# Altium integrated library TI Power Management Battery Management.IntLib: 949 symbols (part 43 of 62)
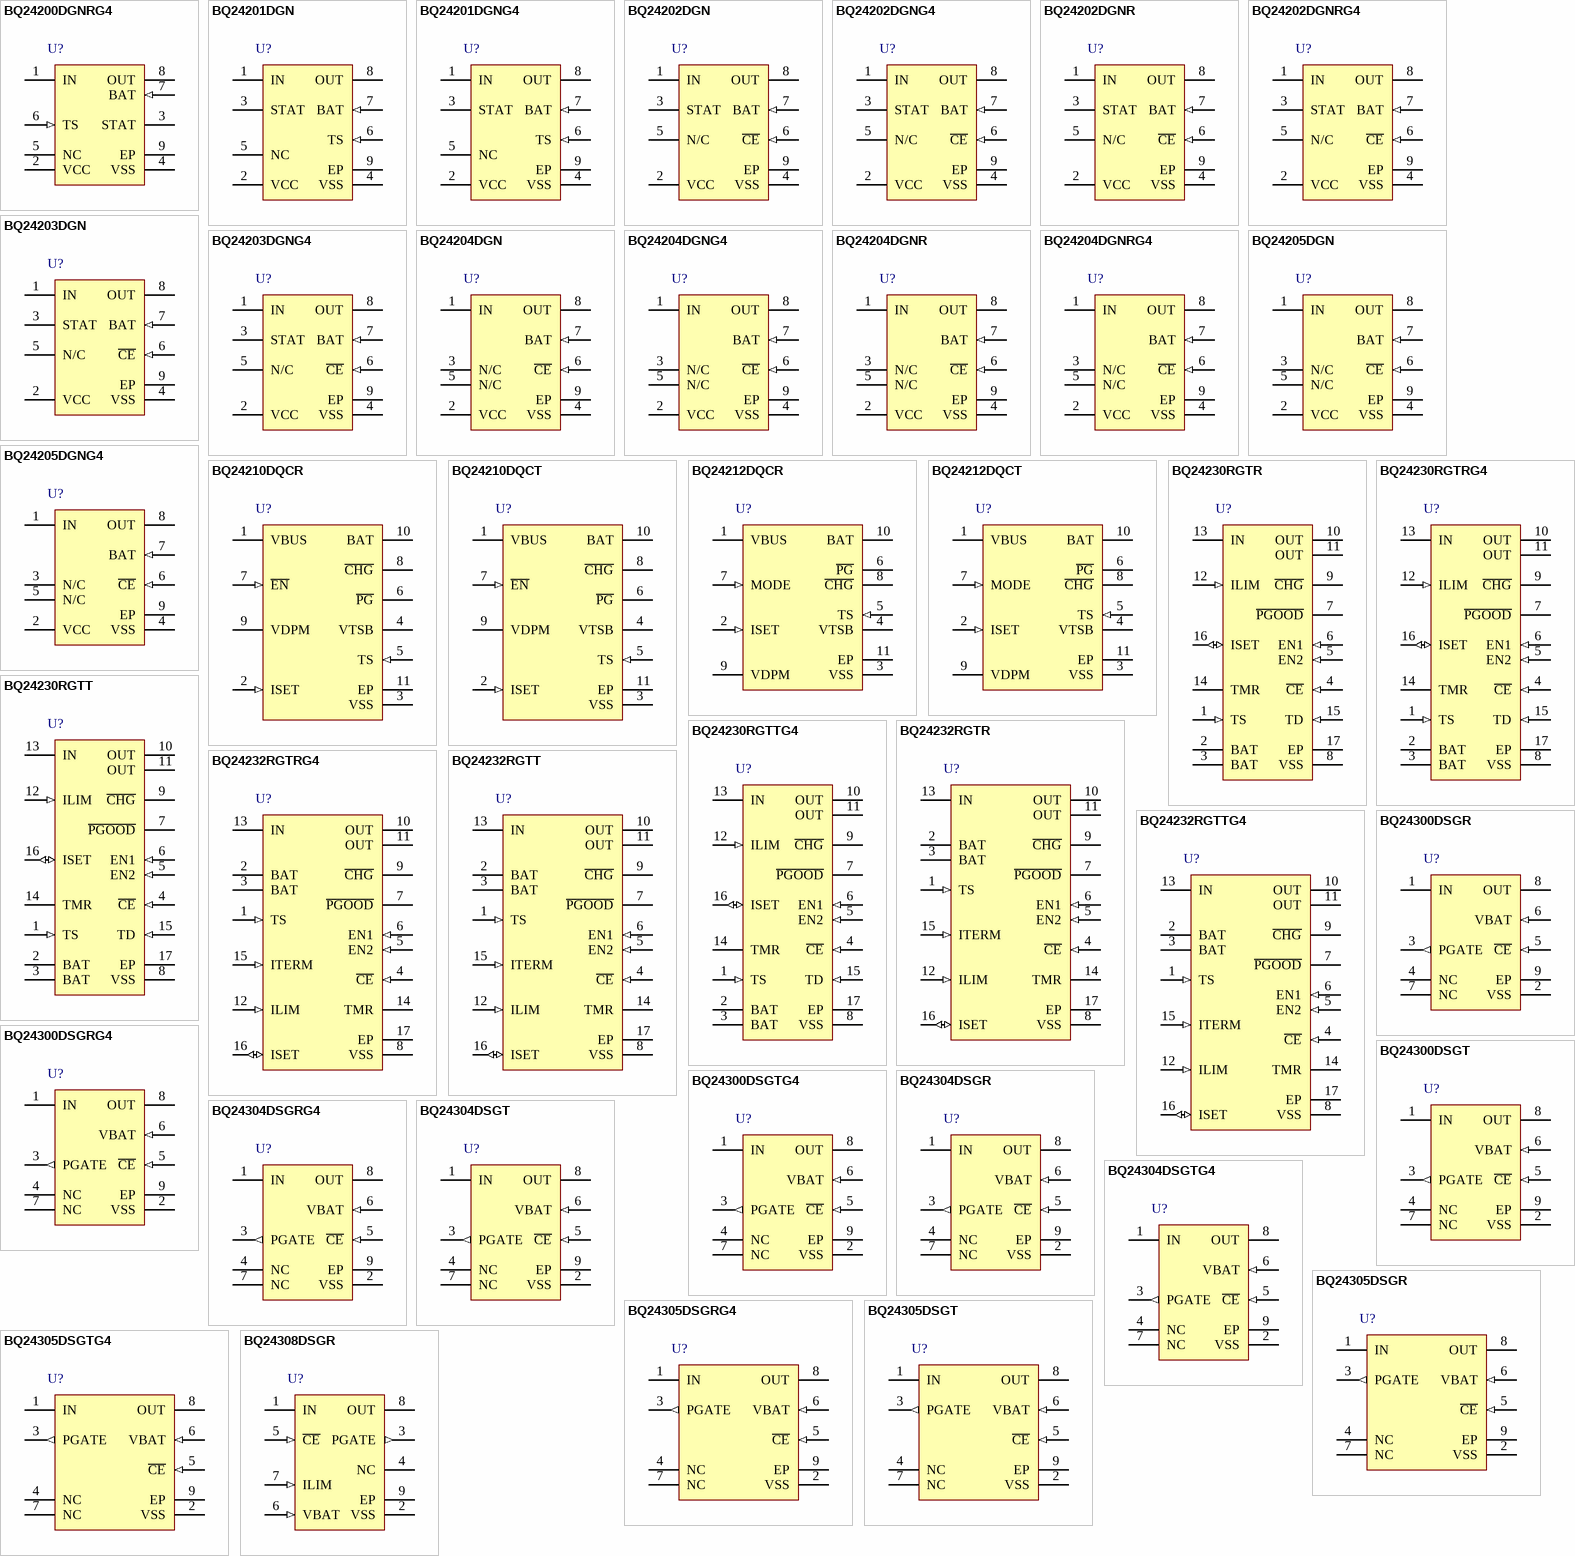
[diagram p76: symbols BQ24200DGNRG4 to BQ24308DSGR]

## BQ24300DSGRG4
designator U?
Charger Front End Protection IC with 30 V Max Vin and 5.5 V LDO Output, 0 to 125 degC, 8-pin WSON (DSG), Green (RoHS & no Sb/Br); PartNumber: BQ24300DSGRG4; Manufacturer: Texas Instruments; Lead Acid: N; DatasheetVersion: SLUS764C; PackageVersion: revB, Oct-2010; PackageReference: DSG8-1600X900TP; PackageDescription: 8-Pin Plastic Small Outline No-Lead, 2 x 2 x 0.8 mm Body, 0.5 mm Pitch, Exposed Pad; Supplier 1: Digi-Key; Supplier Part Number 1: BQ24300DSGRG4-ND; Supplier 2: Mouser; Supplier Part Number 2: 595-BQ24300DSGRG4; Eco-Plan: Green (RoHS & no Sb/Br); Li-Ion: N; Li-Polymer: N; NiCd: N; NiMH: N; Over Voltage Protection: N; SubFamily: Charger Front End Protection; Mounting Technology: Surface Mount; Code_JEDEC: MO-229; ComponentLink1Description: Datasheet; ComponentLink1URL: http://www.ti.com/general/docs/lit/getliterature.tsp?genericPartNumber=BQ24300&fileType=pdf
footprint DSG8-1600X900TP (SON, 8-Leads, Body 2x2mm, Pitch 0.5mm, Thermal Pad 1.6x0.9mm, TI Recommended)
pins: 1 IN (power) "Input power, connect to external DC supply. Connect external 0.1uF (minimum) ceramic capacitor to VSS", 2 VSS (power) "Ground terminal", 3 PGATE (out) "Gate drive for optional external P-FET", 4 NC "Do not connect to any external circuit. These pins may have internal connections used for test purposes.", 5 ~{CE} (in) "Chip enable input. Active low. When C\E\ = Hi, the input FET is off. Internally pulled down.", 6 VBAT (in) "Battery voltage sense input. Connect to pack positive terminal through a resistor.", 7 NC "Do not connect to any external circuit. These pins may have internal connections used for test purposes.", 8 OUT (power) "Output terminal to the charging system. Connect external 1uF capacitor (minimum) ceramic capacitor to VSS", 9 EP (power) "There is an internal electrical connection between the exposed thermal pad and the VSS pin of the device. The thermal pad must be connected to the same potential as the VSS pin on the printed circuit board. Do not use the (See Datasheet)"

## BQ24300DSGT
designator U?
Charger Front End Protection IC with 30 V Max Vin and 5.5 V LDO Output, 0 to 125 degC, 8-pin WSON (DSG), Green (RoHS & no Sb/Br); PartNumber: BQ24300DSGT; Manufacturer: Texas Instruments; Lead Acid: N; DatasheetVersion: SLUS764C; PackageVersion: revB, Oct-2010; PackageReference: DSG8-1600X900TP; PackageDescription: 8-Pin Plastic Small Outline No-Lead, 2 x 2 x 0.8 mm Body, 0.5 mm Pitch, Exposed Pad; Supplier 1: Digi-Key; Supplier Part Number 1: BQ24300DSGT-ND; Supplier 2: Mouser; Supplier Part Number 2: 595-BQ24300DSGT; Eco-Plan: Green (RoHS & no Sb/Br); Li-Ion: N; Li-Polymer: N; NiCd: N; NiMH: N; Over Voltage Protection: N; SubFamily: Charger Front End Protection; Mounting Technology: Surface Mount; Code_JEDEC: MO-229; ComponentLink1Description: Datasheet; ComponentLink1URL: http://www.ti.com/general/docs/lit/getliterature.tsp?genericPartNumber=BQ24300&fileType=pdf
footprint DSG8-1600X900TP (SON, 8-Leads, Body 2x2mm, Pitch 0.5mm, Thermal Pad 1.6x0.9mm, TI Recommended)
pins: 1 IN (power) "Input power, connect to external DC supply. Connect external 0.1uF (minimum) ceramic capacitor to VSS", 2 VSS (power) "Ground terminal", 3 PGATE (out) "Gate drive for optional external P-FET", 4 NC "Do not connect to any external circuit. These pins may have internal connections used for test purposes.", 5 ~{CE} (in) "Chip enable input. Active low. When C\E\ = Hi, the input FET is off. Internally pulled down.", 6 VBAT (in) "Battery voltage sense input. Connect to pack positive terminal through a resistor.", 7 NC "Do not connect to any external circuit. These pins may have internal connections used for test purposes.", 8 OUT (power) "Output terminal to the charging system. Connect external 1uF capacitor (minimum) ceramic capacitor to VSS", 9 EP (power) "There is an internal electrical connection between the exposed thermal pad and the VSS pin of the device. The thermal pad must be connected to the same potential as the VSS pin on the printed circuit board. Do not use the (See Datasheet)"

## BQ24300DSGTG4
designator U?
Charger Front End Protection IC with 30 V Max Vin and 5.5 V LDO Output, 0 to 125 degC, 8-pin WSON (DSG), Green (RoHS & no Sb/Br); PartNumber: BQ24300DSGTG4; Manufacturer: Texas Instruments; Lead Acid: N; DatasheetVersion: SLUS764C; PackageVersion: revB, Oct-2010; PackageReference: DSG8-1600X900TP; PackageDescription: 8-Pin Plastic Small Outline No-Lead, 2 x 2 x 0.8 mm Body, 0.5 mm Pitch, Exposed Pad; Supplier 1: Digi-Key; Supplier Part Number 1: BQ24300DSGTG4-ND; Supplier 2: Mouser; Supplier Part Number 2: 595-BQ24300DSGTG4; Eco-Plan: Green (RoHS & no Sb/Br); Li-Ion: N; Li-Polymer: N; NiCd: N; NiMH: N; Over Voltage Protection: N; SubFamily: Charger Front End Protection; Mounting Technology: Surface Mount; Code_JEDEC: MO-229; ComponentLink1Description: Datasheet; ComponentLink1URL: http://www.ti.com/general/docs/lit/getliterature.tsp?genericPartNumber=BQ24300&fileType=pdf
footprint DSG8-1600X900TP (SON, 8-Leads, Body 2x2mm, Pitch 0.5mm, Thermal Pad 1.6x0.9mm, TI Recommended)
pins: 1 IN (power) "Input power, connect to external DC supply. Connect external 0.1uF (minimum) ceramic capacitor to VSS", 2 VSS (power) "Ground terminal", 3 PGATE (out) "Gate drive for optional external P-FET", 4 NC "Do not connect to any external circuit. These pins may have internal connections used for test purposes.", 5 ~{CE} (in) "Chip enable input. Active low. When C\E\ = Hi, the input FET is off. Internally pulled down.", 6 VBAT (in) "Battery voltage sense input. Connect to pack positive terminal through a resistor.", 7 NC "Do not connect to any external circuit. These pins may have internal connections used for test purposes.", 8 OUT (power) "Output terminal to the charging system. Connect external 1uF capacitor (minimum) ceramic capacitor to VSS", 9 EP (power) "There is an internal electrical connection between the exposed thermal pad and the VSS pin of the device. The thermal pad must be connected to the same potential as the VSS pin on the printed circuit board. Do not use the (See Datasheet)"

## BQ24304DSGR
designator U?
Charger Front End Protection IC with 30 V Max Vin and 4.5 V LDO Output, 0 to 125 degC, 8-pin WSON (DSG), Green (RoHS & no Sb/Br); PartNumber: BQ24304DSGR; Manufacturer: Texas Instruments; Lead Acid: N; DatasheetVersion: SLUS764C; PackageVersion: revB, Oct-2010; PackageReference: DSG8-1600X900TP; PackageDescription: 8-Pin Plastic Small Outline No-Lead, 2 x 2 x 0.8 mm Body, 0.5 mm Pitch, Exposed Pad; Supplier 1: Digi-Key; Supplier Part Number 1: 296-23076-2-ND; Supplier 2: Digi-Key; Supplier Part Number 2: 296-23076-1-ND; Supplier 3: Digi-Key; Supplier Part Number 3: 296-23076-6-ND; Supplier 4: Mouser; Supplier Part Number 4: 595-BQ24304DSGR; Eco-Plan: Green (RoHS & no Sb/Br); Li-Ion: N; Li-Polymer: N; NiCd: N; NiMH: N; Over Voltage Protection: N; SubFamily: Charger Front End Protection; Mounting Technology: Surface Mount; Code_JEDEC: MO-229; ComponentLink1Description: Datasheet; ComponentLink1URL: http://www.ti.com/general/docs/lit/getliterature.tsp?genericPartNumber=BQ24304&fileType=pdf
footprint DSG8-1600X900TP (SON, 8-Leads, Body 2x2mm, Pitch 0.5mm, Thermal Pad 1.6x0.9mm, TI Recommended)
pins: 1 IN (power) "Input power, connect to external DC supply. Connect external 0.1uF (minimum) ceramic capacitor to VSS", 2 VSS (power) "Ground terminal", 3 PGATE (out) "Gate drive for optional external P-FET", 4 NC "Do not connect to any external circuit. These pins may have internal connections used for test purposes.", 5 ~{CE} (in) "Chip enable input. Active low. When C\E\ = Hi, the input FET is off. Internally pulled down.", 6 VBAT (in) "Battery voltage sense input. Connect to pack positive terminal through a resistor.", 7 NC "Do not connect to any external circuit. These pins may have internal connections used for test purposes.", 8 OUT (power) "Output terminal to the charging system. Connect external 1uF capacitor (minimum) ceramic capacitor to VSS", 9 EP (power) "There is an internal electrical connection between the exposed thermal pad and the VSS pin of the device. The thermal pad must be connected to the same potential as the VSS pin on the printed circuit board. Do not use the (See Datasheet)"

## BQ24304DSGRG4
designator U?
Charger Front End Protection IC with 30 V Max Vin and 4.5 V LDO Output, 0 to 125 degC, 8-pin WSON (DSG), Green (RoHS & no Sb/Br); PartNumber: BQ24304DSGRG4; Manufacturer: Texas Instruments; Lead Acid: N; DatasheetVersion: SLUS764C; PackageVersion: revB, Oct-2010; PackageReference: DSG8-1600X900TP; PackageDescription: 8-Pin Plastic Small Outline No-Lead, 2 x 2 x 0.8 mm Body, 0.5 mm Pitch, Exposed Pad; Supplier 1: Digi-Key; Supplier Part Number 1: BQ24304DSGRG4-ND; Supplier 2: Mouser; Supplier Part Number 2: 595-BQ24304DSGRG4; Eco-Plan: Green (RoHS & no Sb/Br); Li-Ion: N; Li-Polymer: N; NiCd: N; NiMH: N; Over Voltage Protection: N; SubFamily: Charger Front End Protection; Mounting Technology: Surface Mount; Code_JEDEC: MO-229; ComponentLink1Description: Datasheet; ComponentLink1URL: http://www.ti.com/general/docs/lit/getliterature.tsp?genericPartNumber=BQ24304&fileType=pdf
footprint DSG8-1600X900TP (SON, 8-Leads, Body 2x2mm, Pitch 0.5mm, Thermal Pad 1.6x0.9mm, TI Recommended)
pins: 1 IN (power) "Input power, connect to external DC supply. Connect external 0.1uF (minimum) ceramic capacitor to VSS", 2 VSS (power) "Ground terminal", 3 PGATE (out) "Gate drive for optional external P-FET", 4 NC "Do not connect to any external circuit. These pins may have internal connections used for test purposes.", 5 ~{CE} (in) "Chip enable input. Active low. When C\E\ = Hi, the input FET is off. Internally pulled down.", 6 VBAT (in) "Battery voltage sense input. Connect to pack positive terminal through a resistor.", 7 NC "Do not connect to any external circuit. These pins may have internal connections used for test purposes.", 8 OUT (power) "Output terminal to the charging system. Connect external 1uF capacitor (minimum) ceramic capacitor to VSS", 9 EP (power) "There is an internal electrical connection between the exposed thermal pad and the VSS pin of the device. The thermal pad must be connected to the same potential as the VSS pin on the printed circuit board. Do not use the (See Datasheet)"

## BQ24304DSGT
designator U?
Charger Front End Protection IC with 30 V Max Vin and 4.5 V LDO Output, 0 to 125 degC, 8-pin WSON (DSG), Green (RoHS & no Sb/Br); PartNumber: BQ24304DSGT; Manufacturer: Texas Instruments; Lead Acid: N; DatasheetVersion: SLUS764C; PackageVersion: revB, Oct-2010; PackageReference: DSG8-1600X900TP; PackageDescription: 8-Pin Plastic Small Outline No-Lead, 2 x 2 x 0.8 mm Body, 0.5 mm Pitch, Exposed Pad; Supplier 1: Digi-Key; Supplier Part Number 1: BQ24304DSGT-ND; Supplier 2: Mouser; Supplier Part Number 2: 595-BQ24304DSGT; Eco-Plan: Green (RoHS & no Sb/Br); Li-Ion: N; Li-Polymer: N; NiCd: N; NiMH: N; Over Voltage Protection: N; SubFamily: Charger Front End Protection; Mounting Technology: Surface Mount; Code_JEDEC: MO-229; ComponentLink1Description: Datasheet; ComponentLink1URL: http://www.ti.com/general/docs/lit/getliterature.tsp?genericPartNumber=BQ24304&fileType=pdf
footprint DSG8-1600X900TP (SON, 8-Leads, Body 2x2mm, Pitch 0.5mm, Thermal Pad 1.6x0.9mm, TI Recommended)
pins: 1 IN (power) "Input power, connect to external DC supply. Connect external 0.1uF (minimum) ceramic capacitor to VSS", 2 VSS (power) "Ground terminal", 3 PGATE (out) "Gate drive for optional external P-FET", 4 NC "Do not connect to any external circuit. These pins may have internal connections used for test purposes.", 5 ~{CE} (in) "Chip enable input. Active low. When C\E\ = Hi, the input FET is off. Internally pulled down.", 6 VBAT (in) "Battery voltage sense input. Connect to pack positive terminal through a resistor.", 7 NC "Do not connect to any external circuit. These pins may have internal connections used for test purposes.", 8 OUT (power) "Output terminal to the charging system. Connect external 1uF capacitor (minimum) ceramic capacitor to VSS", 9 EP (power) "There is an internal electrical connection between the exposed thermal pad and the VSS pin of the device. The thermal pad must be connected to the same potential as the VSS pin on the printed circuit board. Do not use the (See Datasheet)"

## BQ24304DSGTG4
designator U?
Charger Front End Protection IC with 30 V Max Vin and 4.5 V LDO Output, 0 to 125 degC, 8-pin WSON (DSG), Green (RoHS & no Sb/Br); PartNumber: BQ24304DSGTG4; Manufacturer: Texas Instruments; Lead Acid: N; DatasheetVersion: SLUS764C; PackageVersion: revB, Oct-2010; PackageReference: DSG8-1600X900TP; PackageDescription: 8-Pin Plastic Small Outline No-Lead, 2 x 2 x 0.8 mm Body, 0.5 mm Pitch, Exposed Pad; Supplier 1: Digi-Key; Supplier Part Number 1: BQ24304DSGTG4-ND; Supplier 2: Mouser; Supplier Part Number 2: 595-BQ24304DSGTG4; Eco-Plan: Green (RoHS & no Sb/Br); Li-Ion: N; Li-Polymer: N; NiCd: N; NiMH: N; Over Voltage Protection: N; SubFamily: Charger Front End Protection; Mounting Technology: Surface Mount; Code_JEDEC: MO-229; ComponentLink1Description: Datasheet; ComponentLink1URL: http://www.ti.com/general/docs/lit/getliterature.tsp?genericPartNumber=BQ24304&fileType=pdf
footprint DSG8-1600X900TP (SON, 8-Leads, Body 2x2mm, Pitch 0.5mm, Thermal Pad 1.6x0.9mm, TI Recommended)
pins: 1 IN (power) "Input power, connect to external DC supply. Connect external 0.1uF (minimum) ceramic capacitor to VSS", 2 VSS (power) "Ground terminal", 3 PGATE (out) "Gate drive for optional external P-FET", 4 NC "Do not connect to any external circuit. These pins may have internal connections used for test purposes.", 5 ~{CE} (in) "Chip enable input. Active low. When C\E\ = Hi, the input FET is off. Internally pulled down.", 6 VBAT (in) "Battery voltage sense input. Connect to pack positive terminal through a resistor.", 7 NC "Do not connect to any external circuit. These pins may have internal connections used for test purposes.", 8 OUT (power) "Output terminal to the charging system. Connect external 1uF capacitor (minimum) ceramic capacitor to VSS", 9 EP (power) "There is an internal electrical connection between the exposed thermal pad and the VSS pin of the device. The thermal pad must be connected to the same potential as the VSS pin on the printed circuit board. Do not use the (See Datasheet)"

## BQ24305DSGR
designator U?
Overvoltage and Overcurrent Protection IC and Li+ Charger Front End Protection IC, 0 to 125 degC, 8-pin WSON (DSG), Green (RoHS & no Sb/Br); PartNumber: BQ24305DSGR; Manufacturer: Texas Instruments; Lead Acid: N; DatasheetVersion: SLUS764C; PackageVersion: revB, Oct-2010; PackageReference: DSG8-1600X900TP; PackageDescription: 8-Pin Plastic Small Outline No-Lead, 2 x 2 x 0.8 mm Body, 0.5 mm Pitch, Exposed Pad; Supplier 1: Digi-Key; Supplier Part Number 1: BQ24305DSGR-ND; Supplier 2: Mouser; Supplier Part Number 2: 595-BQ24305DSGR; Eco-Plan: Green (RoHS & no Sb/Br); Li-Ion: N; Li-Polymer: N; NiCd: N; NiMH: N; Over Voltage Protection: N; SubFamily: Charger Front End Protection; Mounting Technology: Surface Mount; Code_JEDEC: MO-229; ComponentLink1Description: Datasheet; ComponentLink1URL: http://www.ti.com/general/docs/lit/getliterature.tsp?genericPartNumber=BQ24305&fileType=pdf
footprint DSG8-1600X900TP (SON, 8-Leads, Body 2x2mm, Pitch 0.5mm, Thermal Pad 1.6x0.9mm, TI Recommended)
pins: 1 IN (power) "Input power, connect to external DC supply. Connect external 0.1uF (minimum) ceramic capacitor to VSS", 2 VSS (power) "Ground terminal", 3 PGATE (out) "Gate drive for optional external P-FET", 4 NC "Do not connect to any external circuit. These pins may have internal connections used for test purposes.", 5 ~{CE} (in) "Chip enable input. Active low. When C\E\ = Hi, the input FET is off. Internally pulled down.", 6 VBAT (in) "Battery voltage sense input. Connect to pack positive terminal through a resistor.", 7 NC "Do not connect to any external circuit. These pins may have internal connections used for test purposes.", 8 OUT (power) "Output terminal to the charging system. Connect external 1uF capacitor (minimum) ceramic capacitor to VSS", 9 EP (power) "There is an internal electrical connection between the exposed thermal pad and the VSS pin of the device. The thermal pad must be connected to the same potential as the VSS pin on the printed circuit board. Do not use the (See Datasheet)"

## BQ24305DSGRG4
designator U?
Overvoltage and Overcurrent Protection IC and Li+ Charger Front End Protection IC, 0 to 125 degC, 8-pin WSON (DSG), Green (RoHS & no Sb/Br); PartNumber: BQ24305DSGRG4; Manufacturer: Texas Instruments; Lead Acid: N; DatasheetVersion: SLUS764C; PackageVersion: revB, Oct-2010; PackageReference: DSG8-1600X900TP; PackageDescription: 8-Pin Plastic Small Outline No-Lead, 2 x 2 x 0.8 mm Body, 0.5 mm Pitch, Exposed Pad; Supplier 1: Digi-Key; Supplier Part Number 1: BQ24305DSGRG4-ND; Supplier 2: Mouser; Supplier Part Number 2: 595-BQ24305DSGRG4; Eco-Plan: Green (RoHS & no Sb/Br); Li-Ion: N; Li-Polymer: N; NiCd: N; NiMH: N; Over Voltage Protection: N; SubFamily: Charger Front End Protection; Mounting Technology: Surface Mount; Code_JEDEC: MO-229; ComponentLink1Description: Datasheet; ComponentLink1URL: http://www.ti.com/general/docs/lit/getliterature.tsp?genericPartNumber=BQ24305&fileType=pdf
footprint DSG8-1600X900TP (SON, 8-Leads, Body 2x2mm, Pitch 0.5mm, Thermal Pad 1.6x0.9mm, TI Recommended)
pins: 1 IN (power) "Input power, connect to external DC supply. Connect external 0.1uF (minimum) ceramic capacitor to VSS", 2 VSS (power) "Ground terminal", 3 PGATE (out) "Gate drive for optional external P-FET", 4 NC "Do not connect to any external circuit. These pins may have internal connections used for test purposes.", 5 ~{CE} (in) "Chip enable input. Active low. When C\E\ = Hi, the input FET is off. Internally pulled down.", 6 VBAT (in) "Battery voltage sense input. Connect to pack positive terminal through a resistor.", 7 NC "Do not connect to any external circuit. These pins may have internal connections used for test purposes.", 8 OUT (power) "Output terminal to the charging system. Connect external 1uF capacitor (minimum) ceramic capacitor to VSS", 9 EP (power) "There is an internal electrical connection between the exposed thermal pad and the VSS pin of the device. The thermal pad must be connected to the same potential as the VSS pin on the printed circuit board. Do not use the (See Datasheet)"

## BQ24305DSGT
designator U?
Overvoltage and Overcurrent Protection IC and Li+ Charger Front End Protection IC, 0 to 125 degC, 8-pin WSON (DSG), Green (RoHS & no Sb/Br); PartNumber: BQ24305DSGT; Manufacturer: Texas Instruments; Lead Acid: N; DatasheetVersion: SLUS764C; PackageVersion: revB, Oct-2010; PackageReference: DSG8-1600X900TP; PackageDescription: 8-Pin Plastic Small Outline No-Lead, 2 x 2 x 0.8 mm Body, 0.5 mm Pitch, Exposed Pad; Supplier 1: Digi-Key; Supplier Part Number 1: 296-23518-2-ND; Supplier 2: Digi-Key; Supplier Part Number 2: 296-23518-1-ND; Supplier 3: Digi-Key; Supplier Part Number 3: 296-23518-6-ND; Supplier 4: Mouser; Supplier Part Number 4: 595-BQ24305DSGT; Eco-Plan: Green (RoHS & no Sb/Br); Li-Ion: N; Li-Polymer: N; NiCd: N; NiMH: N; Over Voltage Protection: N; SubFamily: Charger Front End Protection; Mounting Technology: Surface Mount; Code_JEDEC: MO-229; ComponentLink1Description: Datasheet; ComponentLink1URL: http://www.ti.com/general/docs/lit/getliterature.tsp?genericPartNumber=BQ24305&fileType=pdf
footprint DSG8-1600X900TP (SON, 8-Leads, Body 2x2mm, Pitch 0.5mm, Thermal Pad 1.6x0.9mm, TI Recommended)
pins: 1 IN (power) "Input power, connect to external DC supply. Connect external 0.1uF (minimum) ceramic capacitor to VSS", 2 VSS (power) "Ground terminal", 3 PGATE (out) "Gate drive for optional external P-FET", 4 NC "Do not connect to any external circuit. These pins may have internal connections used for test purposes.", 5 ~{CE} (in) "Chip enable input. Active low. When C\E\ = Hi, the input FET is off. Internally pulled down.", 6 VBAT (in) "Battery voltage sense input. Connect to pack positive terminal through a resistor.", 7 NC "Do not connect to any external circuit. These pins may have internal connections used for test purposes.", 8 OUT (power) "Output terminal to the charging system. Connect external 1uF capacitor (minimum) ceramic capacitor to VSS", 9 EP (power) "There is an internal electrical connection between the exposed thermal pad and the VSS pin of the device. The thermal pad must be connected to the same potential as the VSS pin on the printed circuit board. Do not use the (See Datasheet)"

## BQ24305DSGTG4
designator U?
Overvoltage and Overcurrent Protection IC and Li+ Charger Front End Protection IC, 0 to 125 degC, 8-pin WSON (DSG), Green (RoHS & no Sb/Br); PartNumber: BQ24305DSGTG4; Manufacturer: Texas Instruments; Lead Acid: N; DatasheetVersion: SLUS764C; PackageVersion: revB, Oct-2010; PackageReference: DSG8-1600X900TP; PackageDescription: 8-Pin Plastic Small Outline No-Lead, 2 x 2 x 0.8 mm Body, 0.5 mm Pitch, Exposed Pad; Supplier 1: Digi-Key; Supplier Part Number 1: BQ24305DSGTG4-ND; Supplier 2: Mouser; Supplier Part Number 2: 595-BQ24305DSGTG4; Eco-Plan: Green (RoHS & no Sb/Br); Li-Ion: N; Li-Polymer: N; NiCd: N; NiMH: N; Over Voltage Protection: N; SubFamily: Charger Front End Protection; Mounting Technology: Surface Mount; Code_JEDEC: MO-229; ComponentLink1Description: Datasheet; ComponentLink1URL: http://www.ti.com/general/docs/lit/getliterature.tsp?genericPartNumber=BQ24305&fileType=pdf
footprint DSG8-1600X900TP (SON, 8-Leads, Body 2x2mm, Pitch 0.5mm, Thermal Pad 1.6x0.9mm, TI Recommended)
pins: 1 IN (power) "Input power, connect to external DC supply. Connect external 0.1uF (minimum) ceramic capacitor to VSS", 2 VSS (power) "Ground terminal", 3 PGATE (out) "Gate drive for optional external P-FET", 4 NC "Do not connect to any external circuit. These pins may have internal connections used for test purposes.", 5 ~{CE} (in) "Chip enable input. Active low. When C\E\ = Hi, the input FET is off. Internally pulled down.", 6 VBAT (in) "Battery voltage sense input. Connect to pack positive terminal through a resistor.", 7 NC "Do not connect to any external circuit. These pins may have internal connections used for test purposes.", 8 OUT (power) "Output terminal to the charging system. Connect external 1uF capacitor (minimum) ceramic capacitor to VSS", 9 EP (power) "There is an internal electrical connection between the exposed thermal pad and the VSS pin of the device. The thermal pad must be connected to the same potential as the VSS pin on the printed circuit board. Do not use the (See Datasheet)"

## BQ24308DSGR
designator U?
Overvoltage and Overcurrent Protection IC, 0 to 125 degC, 8-pin WSON (DSG), Green (RoHS & no Sb/Br); PartNumber: BQ24308DSGR; Manufacturer: Texas Instruments; Lead Acid: N; SubFamily: Charger Front End Protection; DatasheetVersion: SLUS977A; PackageVersion: revB, Oct-2010; PackageReference: DSG8-1600X900TP; PackageDescription: 8-Pin Plastic Small Outline No-Lead, 2 x 2 x 0.8 mm Body, 0.5 mm Pitch, Exposed Pad; Supplier 1: Digi-Key; Supplier Part Number 1: BQ24308DSGR-ND; Supplier 2: Mouser; Supplier Part Number 2: 595-BQ24308DSGR; Eco-Plan: Green (RoHS & no Sb/Br); Li-Ion: N; Li-Polymer: N; NiCd: N; NiMH: N; Over Voltage Protection: N; Mounting Technology: Surface Mount; Code_JEDEC: MO-229; ComponentLink1Description: Datasheet; ComponentLink1URL: http://www.ti.com/general/docs/lit/getliterature.tsp?genericPartNumber=BQ24308&fileType=pdf
footprint DSG8-1600X900TP (SON, 8-Leads, Body 2x2mm, Pitch 0.5mm, Thermal Pad 1.6x0.9mm, TI Recommended)
pins: 1 IN (power) "Input power, connect to external DC supply. Connect external 0.1uF (minimum) ceramic capacitor to VSS", 2 VSS (power) "Ground terminal", 3 PGATE (out) "Gate drive for optional external P-FET", 4 NC "Do not connect to any external circuit. This pin may have internal connections used for test purpose.", 5 ~{CE} (in) "Chip enable input. Active low. When C\E\= High, the input FET is off. Internally pulled down.", 6 VBAT (in) "Battery voltage sense input. Connect to pack positive terminal through a resistor.", 7 ILIM (in) "Input over-current threshold programming. An optional external resistor can be used to increase input over-current threshold. Connect a resistor to VSS to increase the OCP threshold.", 8 OUT (power) "Output terminal to the charging system. Connect external 1uF capacitor (minimum) ceramic capacitor to VSS", 9 EP (power) "There is an internal electrical connection between the exposed thermal pad and the VSS pin of the device.The thermal pad must be connected to the same potential as the VSS pin on the printed circuit board. Do not use the (See Datasheet)"

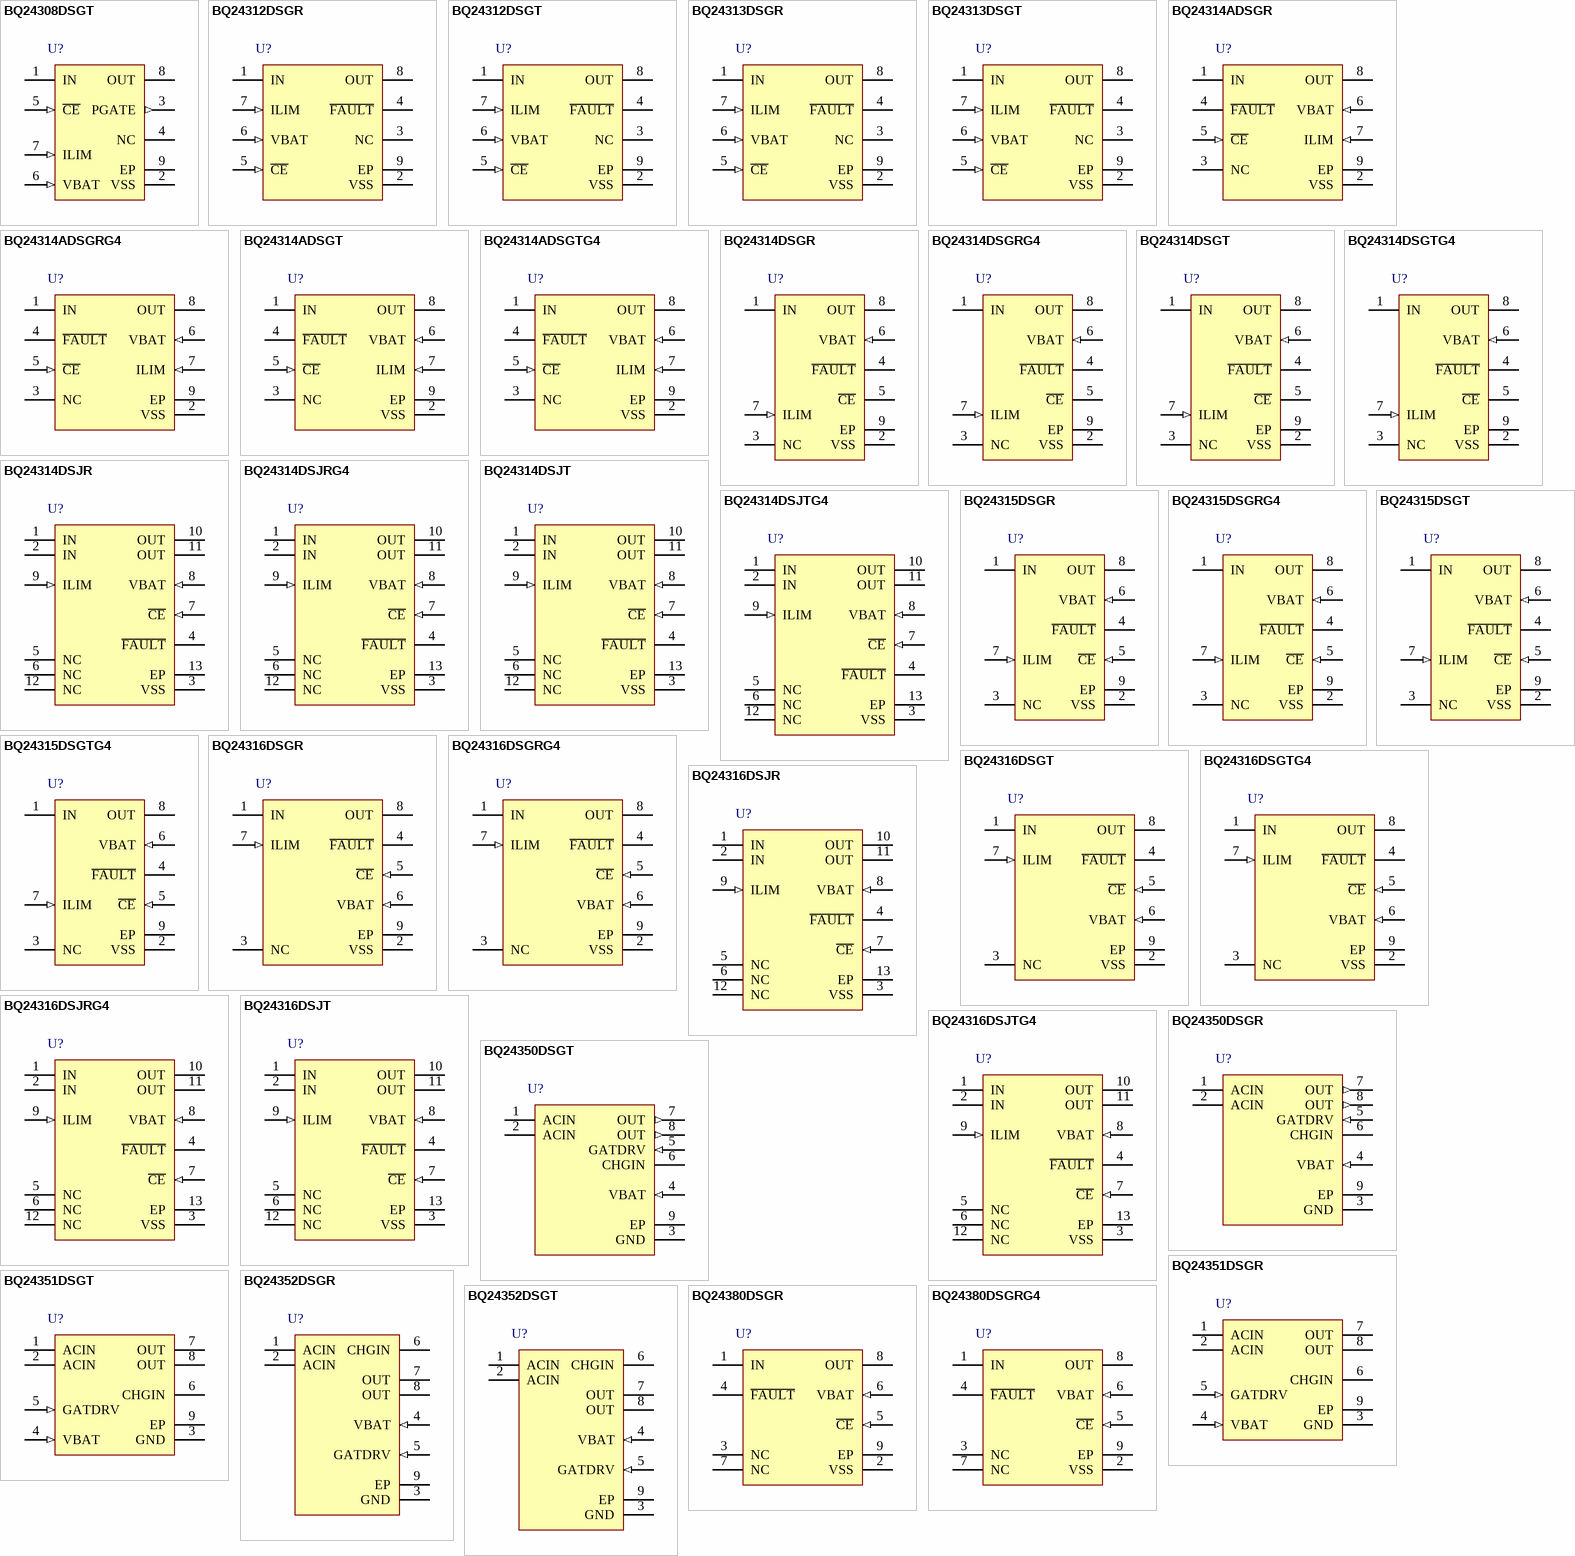
[diagram p23: symbols BQ24308DSGT to BQ24380DSGRG4]

## BQ24308DSGT
designator U?
Overvoltage and Overcurrent Protection IC, 0 to 125 degC, 8-pin WSON (DSG), Green (RoHS & no Sb/Br); PartNumber: BQ24308DSGT; Manufacturer: Texas Instruments; Lead Acid: N; SubFamily: Charger Front End Protection; DatasheetVersion: SLUS977A; PackageVersion: revB, Oct-2010; PackageReference: DSG8-1600X900TP; PackageDescription: 8-Pin Plastic Small Outline No-Lead, 2 x 2 x 0.8 mm Body, 0.5 mm Pitch, Exposed Pad; Supplier 1: Digi-Key; Supplier Part Number 1: 296-25374-2-ND; Supplier 2: Digi-Key; Supplier Part Number 2: 296-25374-1-ND; Supplier 3: Digi-Key; Supplier Part Number 3: 296-25374-6-ND; Supplier 4: Newark; Supplier Part Number 4: 50R7521; Supplier 5: Mouser; Supplier Part Number 5: 595-BQ24308DSGT; Eco-Plan: Green (RoHS & no Sb/Br); Li-Ion: N; Li-Polymer: N; NiCd: N; NiMH: N; Over Voltage Protection: N; Mounting Technology: Surface Mount; Code_JEDEC: MO-229; ComponentLink1Description: Datasheet; ComponentLink1URL: http://www.ti.com/general/docs/lit/getliterature.tsp?genericPartNumber=BQ24308&fileType=pdf
footprint DSG8-1600X900TP (SON, 8-Leads, Body 2x2mm, Pitch 0.5mm, Thermal Pad 1.6x0.9mm, TI Recommended)
pins: 1 IN (power) "Input power, connect to external DC supply. Connect external 0.1uF (minimum) ceramic capacitor to VSS", 2 VSS (power) "Ground terminal", 3 PGATE (out) "Gate drive for optional external P-FET", 4 NC "Do not connect to any external circuit. This pin may have internal connections used for test purpose.", 5 ~{CE} (in) "Chip enable input. Active low. When C\E\= High, the input FET is off. Internally pulled down.", 6 VBAT (in) "Battery voltage sense input. Connect to pack positive terminal through a resistor.", 7 ILIM (in) "Input over-current threshold programming. An optional external resistor can be used to increase input over-current threshold. Connect a resistor to VSS to increase the OCP threshold.", 8 OUT (power) "Output terminal to the charging system. Connect external 1uF capacitor (minimum) ceramic capacitor to VSS", 9 EP (power) "There is an internal electrical connection between the exposed thermal pad and the VSS pin of the device.The thermal pad must be connected to the same potential as the VSS pin on the printed circuit board. Do not use the (See Datasheet)"

## BQ24312DSGR
designator U?
Overvoltage and Overcurrent Protection IC & Li+ Charger Front-End Protection, -40 to 125 degC, 8-pin WSON (DSG), Green (RoHS & no Sb/Br); PartNumber: BQ24312DSGR; Manufacturer: Texas Instruments; Lead Acid: N; SubFamily: Charger Front End Protection; DatasheetVersion: SLUS912; PackageVersion: revB, Oct-2010; PackageReference: DSG8-1600X900TP; PackageDescription: 8-Pin Plastic Small Outline No-Lead, 2 x 2 x 0.8 mm Body, 0.5 mm Pitch, Exposed Pad; Supplier 1: Digi-Key; Supplier Part Number 1: BQ24312DSGR-ND; Supplier 2: Newark; Supplier Part Number 2: 50R7522; Supplier 3: Mouser; Supplier Part Number 3: 595-BQ24312DSGR; Eco-Plan: Green (RoHS & no Sb/Br); Li-Ion: N; Li-Polymer: N; NiCd: N; NiMH: N; Over Voltage Protection: N; Mounting Technology: Surface Mount; Code_JEDEC: MO-229; ComponentLink1Description: Datasheet; ComponentLink1URL: http://www.ti.com/general/docs/lit/getliterature.tsp?genericPartNumber=BQ24312&fileType=pdf
footprint DSG8-1600X900TP (SON, 8-Leads, Body 2x2mm, Pitch 0.5mm, Thermal Pad 1.6x0.9mm, TI Recommended)
pins: 1 IN (power) "Input power, connect to external DC supply. Connect external 1 uF ceramic capacitor (minimum) to VSS.", 2 VSS (power) "Ground terminal.", 3 NC "These pins may have internal circuits used for test purposes. Do not make any external connections at these pins for normal operation.", 4 ~{FAULT} (hiz) "Open-drain output, device status. F\A\U\L\T\ = Low indicates that the input FET Q1 has been turned off due to input overvoltage, input overcurrent, battery overvoltage, or thermal shutdown.", 5 ~{CE} (in) "Chip enable input. Active low. When C\E\ = High, the input FET is off. Internally pulled down.", 6 VBAT (in) "Battery voltage sense input. Connect to pack positive terminal through a resistor.", 7 ILIM (in) "Input overcurrent threshold programming. Connect a resistor to VSS to set the overcurrent threshold.", 8 OUT (power) "Output terminal to the charging system. Connect external 1 uF ceramic capacitor (minimum) to VSS.", 9 EP (power) "There is an internal electrical connection between the exposed thermal pad and the VSS pin of the device. The thermal pad must be connected to the same potential as the VSS pin on the printed circuit board. Do not use the (See Datasheet)"

## BQ24312DSGT
designator U?
Overvoltage and Overcurrent Protection IC & Li+ Charger Front-End Protection, -40 to 125 degC, 8-pin WSON (DSG), Green (RoHS & no Sb/Br); PartNumber: BQ24312DSGT; Manufacturer: Texas Instruments; Lead Acid: N; SubFamily: Charger Front End Protection; DatasheetVersion: SLUS912; PackageVersion: revB, Oct-2010; PackageReference: DSG8-1600X900TP; PackageDescription: 8-Pin Plastic Small Outline No-Lead, 2 x 2 x 0.8 mm Body, 0.5 mm Pitch, Exposed Pad; Supplier 1: Digi-Key; Supplier Part Number 1: 296-24975-2-ND; Supplier 2: Digi-Key; Supplier Part Number 2: 296-24975-1-ND; Supplier 3: Digi-Key; Supplier Part Number 3: 296-24975-6-ND; Supplier 4: Mouser; Supplier Part Number 4: 595-BQ24312DSGT; Eco-Plan: Green (RoHS & no Sb/Br); Li-Ion: N; Li-Polymer: N; NiCd: N; NiMH: N; Over Voltage Protection: N; Mounting Technology: Surface Mount; Code_JEDEC: MO-229; ComponentLink1Description: Datasheet; ComponentLink1URL: http://www.ti.com/general/docs/lit/getliterature.tsp?genericPartNumber=BQ24312&fileType=pdf
footprint DSG8-1600X900TP (SON, 8-Leads, Body 2x2mm, Pitch 0.5mm, Thermal Pad 1.6x0.9mm, TI Recommended)
pins: 1 IN (power) "Input power, connect to external DC supply. Connect external 1 uF ceramic capacitor (minimum) to VSS.", 2 VSS (power) "Ground terminal.", 3 NC "These pins may have internal circuits used for test purposes. Do not make any external connections at these pins for normal operation.", 4 ~{FAULT} (hiz) "Open-drain output, device status. F\A\U\L\T\ = Low indicates that the input FET Q1 has been turned off due to input overvoltage, input overcurrent, battery overvoltage, or thermal shutdown.", 5 ~{CE} (in) "Chip enable input. Active low. When C\E\ = High, the input FET is off. Internally pulled down.", 6 VBAT (in) "Battery voltage sense input. Connect to pack positive terminal through a resistor.", 7 ILIM (in) "Input overcurrent threshold programming. Connect a resistor to VSS to set the overcurrent threshold.", 8 OUT (power) "Output terminal to the charging system. Connect external 1 uF ceramic capacitor (minimum) to VSS.", 9 EP (power) "There is an internal electrical connection between the exposed thermal pad and the VSS pin of the device. The thermal pad must be connected to the same potential as the VSS pin on the printed circuit board. Do not use the (See Datasheet)"

## BQ24313DSGR
designator U?
Charger Front and Protection IC with 30 V max Vin and 10.5 V OVP, -40 to 125 degC, 8-pin WSON (DSG), Green (RoHS & no Sb/Br); PartNumber: BQ24313DSGR; Manufacturer: Texas Instruments; Lead Acid: N; SubFamily: Battery Charge Management; DatasheetVersion: SLUS817A; PackageVersion: revB, Oct-2010; PackageReference: DSG8-1600X900TP; PackageDescription: 8-Pin Plastic Small Outline No-Lead, 2 x 2 x 0.8 mm Body, 0.5 mm Pitch, Exposed Pad; Supplier 1: Digi-Key; Supplier Part Number 1: BQ24313DSGR-ND; Supplier 2: Mouser; Supplier Part Number 2: 595-BQ24313DSGR; Eco-Plan: Green (RoHS & no Sb/Br); Li-Ion: N; Li-Polymer: N; NiCd: N; NiMH: N; Over Voltage Protection: N; Mounting Technology: Surface Mount; Code_JEDEC: MO-229; ComponentLink1Description: Datasheet; ComponentLink1URL: http://www.ti.com/general/docs/lit/getliterature.tsp?genericPartNumber=BQ24313&fileType=pdf
footprint DSG8-1600X900TP (SON, 8-Leads, Body 2x2mm, Pitch 0.5mm, Thermal Pad 1.6x0.9mm, TI Recommended)
pins: 1 IN (power) "Input power. Connect IN to the external DC supply. Bypass IN to VSS with a 1uF ceramic capacitor (minimum).", 2 VSS (power) "Ground terminal", 3 NC "This pin may have internal circuits used for test purposes. Do not make any external connection to this pin for normal operation.", 4 ~{FAULT} (hiz) "Open-drain, device status output. F\A\U\L\T\ = Low indicates that the input FET Q1 is off due to input overvoltage, input overcurrent, battery overvoltage, or thermal shutdown. F\A\U\L\T\ is high impedance during normal (See Datasheet)", 5 ~{CE} (in) "Chip enable active low input. Connect C\E\ = High to disable the IC and turn the input FET off. Connect C\E\ = low for normal operation. C\E\ is internally pulled down.", 6 VBAT (in) "Battery voltage sense input. Connect to the battery pack positive terminal through a resistor.", 7 ILIM (in) "Input overcurrent threshold programming. Connect a resistor from ILIM to VSS to set the overcurrent threshold.", 8 OUT (power) "Output terminal to the charging system. Connect OUT to the external load circuitry. Bypass OUT to VSS with a 1uF ceramic capacitor (minimum).", 9 EP (power) "There is an internal electrical connection between the exposed thermal pad and the VSS pin of the  device. The thermal pad must be connected to the same potential as the VSS pin on the printed circuit board. Do not use the (See Datasheet)"

## BQ24313DSGT
designator U?
Charger Front and Protection IC with 30 V max Vin and 10.5 V OVP, -40 to 125 degC, 8-pin WSON (DSG), Green (RoHS & no Sb/Br); PartNumber: BQ24313DSGT; Manufacturer: Texas Instruments; Lead Acid: N; SubFamily: Battery Charge Management; DatasheetVersion: SLUS817A; PackageVersion: revB, Oct-2010; PackageReference: DSG8-1600X900TP; PackageDescription: 8-Pin Plastic Small Outline No-Lead, 2 x 2 x 0.8 mm Body, 0.5 mm Pitch, Exposed Pad; Supplier 1: Digi-Key; Supplier Part Number 1: 296-23933-2-ND; Supplier 2: Digi-Key; Supplier Part Number 2: 296-23933-1-ND; Supplier 3: Digi-Key; Supplier Part Number 3: 296-23933-6-ND; Supplier 4: Farnell; Supplier Part Number 4: 1689412RL; Supplier 5: Farnell; Supplier Part Number 5: 1689412; Supplier 6: Newark; Supplier Part Number 6: 34P2007; Supplier 7: Mouser; Supplier Part Number 7: 595-BQ24313DSGT; Eco-Plan: Green (RoHS & no Sb/Br); Li-Ion: N; Li-Polymer: N; NiCd: N; NiMH: N; Over Voltage Protection: N; Mounting Technology: Surface Mount; Code_JEDEC: MO-229; ComponentLink1Description: Datasheet; ComponentLink1URL: http://www.ti.com/general/docs/lit/getliterature.tsp?genericPartNumber=BQ24313&fileType=pdf
footprint DSG8-1600X900TP (SON, 8-Leads, Body 2x2mm, Pitch 0.5mm, Thermal Pad 1.6x0.9mm, TI Recommended)
pins: 1 IN (power) "Input power. Connect IN to the external DC supply. Bypass IN to VSS with a 1uF ceramic capacitor (minimum).", 2 VSS (power) "Ground terminal", 3 NC "This pin may have internal circuits used for test purposes. Do not make any external connection to this pin for normal operation.", 4 ~{FAULT} (hiz) "Open-drain, device status output. F\A\U\L\T\ = Low indicates that the input FET Q1 is off due to input overvoltage, input overcurrent, battery overvoltage, or thermal shutdown. F\A\U\L\T\ is high impedance during normal (See Datasheet)", 5 ~{CE} (in) "Chip enable active low input. Connect C\E\ = High to disable the IC and turn the input FET off. Connect C\E\ = low for normal operation. C\E\ is internally pulled down.", 6 VBAT (in) "Battery voltage sense input. Connect to the battery pack positive terminal through a resistor.", 7 ILIM (in) "Input overcurrent threshold programming. Connect a resistor from ILIM to VSS to set the overcurrent threshold.", 8 OUT (power) "Output terminal to the charging system. Connect OUT to the external load circuitry. Bypass OUT to VSS with a 1uF ceramic capacitor (minimum).", 9 EP (power) "There is an internal electrical connection between the exposed thermal pad and the VSS pin of the  device. The thermal pad must be connected to the same potential as the VSS pin on the printed circuit board. Do not use the (See Datasheet)"

## BQ24314ADSGR
designator U?
Overvoltage & Overcurrent Protection IC & Li+ Charger Front-End Protection IC, -40 to 125 degC, 8-pin WSON (DSG), Green (RoHS & no Sb/Br); PartNumber: BQ24314ADSGR; Manufacturer: Texas Instruments; Lead Acid: N; SubFamily: Charger Front End Protection; DatasheetVersion: SLUS811; PackageVersion: revB, Oct-2010; PackageReference: DSG8-1600X900TP; PackageDescription: 8-Pin Plastic Small Outline No-Lead, 2 x 2 x 0.8 mm Body, 0.5 mm Pitch, Exposed Pad; Supplier 1: Digi-Key; Supplier Part Number 1: 296-23340-2-ND; Supplier 2: Digi-Key; Supplier Part Number 2: 296-23340-1-ND; Supplier 3: Digi-Key; Supplier Part Number 3: 296-23340-6-ND; Supplier 4: Mouser; Supplier Part Number 4: 595-BQ24314ADSGR; Eco-Plan: Green (RoHS & no Sb/Br); Li-Ion: N; Li-Polymer: N; NiCd: N; NiMH: N; Over Voltage Protection: N; Mounting Technology: Surface Mount; Code_JEDEC: MO-229; ComponentLink1Description: Datasheet; ComponentLink1URL: http://www.ti.com/general/docs/lit/getliterature.tsp?genericPartNumber=BQ24314A&fileType=pdf
footprint DSG8-1600X900TP (SON, 8-Leads, Body 2x2mm, Pitch 0.5mm, Thermal Pad 1.6x0.9mm, TI Recommended)
pins: 1 IN (power) "Input power, connect to external DC supply. Connect external 1µF ceramic capacitor (minimum) to VSS.", 2 VSS (power) "Ground terminal", 3 NC "These pins may have internal circuits used for test purposes. Do not make any external connections at these pins for normal operation.", 4 ~{FAULT} (hiz) "Open-drain output, device status. F\A\U\L\T\ = Low indicates that the input FET Q1 has been turned off due to input overvoltage, input overcurrent, battery overvoltage, or thermal shutdown.", 5 ~{CE} (in) "Chip enable input. Active low. When C\E\ = High, the input FET is off. Internally pulled down.", 6 VBAT (in) "Battery voltage sense input. Connect to pack positive terminal through a resistor.", 7 ILIM (in) "Input overcurrent threshold programming. Connect a resistor to VSS to set the overcurrent threshold.", 8 OUT (power) "Output terminal to the charging system. Connect external 1µF ceramic capacitor (minimum) to VSS.", 9 EP (power) "There is an internal electrical connection between the exposed thermal pad and the VSS pin of the device. The thermal pad must be connected to the same potential as the VSS pin on the printed circuit board. Do not use the (See Datasheet)"

## BQ24314ADSGRG4
designator U?
Overvoltage & Overcurrent Protection IC & Li+ Charger Front-End Protection IC, -40 to 125 degC, 8-pin WSON (DSG), Green (RoHS & no Sb/Br); PartNumber: BQ24314ADSGRG4; Manufacturer: Texas Instruments; Lead Acid: N; SubFamily: Charger Front End Protection; DatasheetVersion: SLUS811; PackageVersion: revB, Oct-2010; PackageReference: DSG8-1600X900TP; PackageDescription: 8-Pin Plastic Small Outline No-Lead, 2 x 2 x 0.8 mm Body, 0.5 mm Pitch, Exposed Pad; Supplier 1: Digi-Key; Supplier Part Number 1: BQ24314ADSGRG4-ND; Supplier 2: Mouser; Supplier Part Number 2: 595-BQ24314ADSGRG4; Eco-Plan: Green (RoHS & no Sb/Br); Li-Ion: N; Li-Polymer: N; NiCd: N; NiMH: N; Over Voltage Protection: N; Mounting Technology: Surface Mount; Code_JEDEC: MO-229; ComponentLink1Description: Datasheet; ComponentLink1URL: http://www.ti.com/general/docs/lit/getliterature.tsp?genericPartNumber=BQ24314A&fileType=pdf
footprint DSG8-1600X900TP (SON, 8-Leads, Body 2x2mm, Pitch 0.5mm, Thermal Pad 1.6x0.9mm, TI Recommended)
pins: 1 IN (power) "Input power, connect to external DC supply. Connect external 1µF ceramic capacitor (minimum) to VSS.", 2 VSS (power) "Ground terminal", 3 NC "These pins may have internal circuits used for test purposes. Do not make any external connections at these pins for normal operation.", 4 ~{FAULT} (hiz) "Open-drain output, device status. F\A\U\L\T\ = Low indicates that the input FET Q1 has been turned off due to input overvoltage, input overcurrent, battery overvoltage, or thermal shutdown.", 5 ~{CE} (in) "Chip enable input. Active low. When C\E\ = High, the input FET is off. Internally pulled down.", 6 VBAT (in) "Battery voltage sense input. Connect to pack positive terminal through a resistor.", 7 ILIM (in) "Input overcurrent threshold programming. Connect a resistor to VSS to set the overcurrent threshold.", 8 OUT (power) "Output terminal to the charging system. Connect external 1µF ceramic capacitor (minimum) to VSS.", 9 EP (power) "There is an internal electrical connection between the exposed thermal pad and the VSS pin of the device. The thermal pad must be connected to the same potential as the VSS pin on the printed circuit board. Do not use the (See Datasheet)"

## BQ24314ADSGT
designator U?
Overvoltage & Overcurrent Protection IC & Li+ Charger Front-End Protection IC, -40 to 125 degC, 8-pin WSON (DSG), Green (RoHS & no Sb/Br); PartNumber: BQ24314ADSGT; Manufacturer: Texas Instruments; Lead Acid: N; SubFamily: Charger Front End Protection; DatasheetVersion: SLUS811; PackageVersion: revB, Oct-2010; PackageReference: DSG8-1600X900TP; PackageDescription: 8-Pin Plastic Small Outline No-Lead, 2 x 2 x 0.8 mm Body, 0.5 mm Pitch, Exposed Pad; Supplier 1: Digi-Key; Supplier Part Number 1: 296-32029-2-ND; Supplier 2: Digi-Key; Supplier Part Number 2: 296-32029-1-ND; Supplier 3: Digi-Key; Supplier Part Number 3: 296-32029-6-ND; Supplier 4: Newark; Supplier Part Number 4: 96M9616; Supplier 5: Mouser; Supplier Part Number 5: 595-BQ24314ADSGT; Eco-Plan: Green (RoHS & no Sb/Br); Li-Ion: N; Li-Polymer: N; NiCd: N; NiMH: N; Over Voltage Protection: N; Mounting Technology: Surface Mount; Code_JEDEC: MO-229; ComponentLink1Description: Datasheet; ComponentLink1URL: http://www.ti.com/general/docs/lit/getliterature.tsp?genericPartNumber=BQ24314A&fileType=pdf
footprint DSG8-1600X900TP (SON, 8-Leads, Body 2x2mm, Pitch 0.5mm, Thermal Pad 1.6x0.9mm, TI Recommended)
pins: 1 IN (power) "Input power, connect to external DC supply. Connect external 1µF ceramic capacitor (minimum) to VSS.", 2 VSS (power) "Ground terminal", 3 NC "These pins may have internal circuits used for test purposes. Do not make any external connections at these pins for normal operation.", 4 ~{FAULT} (hiz) "Open-drain output, device status. F\A\U\L\T\ = Low indicates that the input FET Q1 has been turned off due to input overvoltage, input overcurrent, battery overvoltage, or thermal shutdown.", 5 ~{CE} (in) "Chip enable input. Active low. When C\E\ = High, the input FET is off. Internally pulled down.", 6 VBAT (in) "Battery voltage sense input. Connect to pack positive terminal through a resistor.", 7 ILIM (in) "Input overcurrent threshold programming. Connect a resistor to VSS to set the overcurrent threshold.", 8 OUT (power) "Output terminal to the charging system. Connect external 1µF ceramic capacitor (minimum) to VSS.", 9 EP (power) "There is an internal electrical connection between the exposed thermal pad and the VSS pin of the device. The thermal pad must be connected to the same potential as the VSS pin on the printed circuit board. Do not use the (See Datasheet)"

## BQ24314ADSGTG4
designator U?
Overvoltage & Overcurrent Protection IC & Li+ Charger Front-End Protection IC, -40 to 125 degC, 8-pin WSON (DSG), Green (RoHS & no Sb/Br); PartNumber: BQ24314ADSGTG4; Manufacturer: Texas Instruments; Lead Acid: N; SubFamily: Charger Front End Protection; DatasheetVersion: SLUS811; PackageVersion: revB, Oct-2010; PackageReference: DSG8-1600X900TP; PackageDescription: 8-Pin Plastic Small Outline No-Lead, 2 x 2 x 0.8 mm Body, 0.5 mm Pitch, Exposed Pad; Supplier 1: Digi-Key; Supplier Part Number 1: BQ24314ADSGTG4-ND; Supplier 2: Mouser; Supplier Part Number 2: 595-BQ24314ADSGTG4; Eco-Plan: Green (RoHS & no Sb/Br); Li-Ion: N; Li-Polymer: N; NiCd: N; NiMH: N; Over Voltage Protection: N; Mounting Technology: Surface Mount; Code_JEDEC: MO-229; ComponentLink1Description: Datasheet; ComponentLink1URL: http://www.ti.com/general/docs/lit/getliterature.tsp?genericPartNumber=BQ24314A&fileType=pdf
footprint DSG8-1600X900TP (SON, 8-Leads, Body 2x2mm, Pitch 0.5mm, Thermal Pad 1.6x0.9mm, TI Recommended)
pins: 1 IN (power) "Input power, connect to external DC supply. Connect external 1µF ceramic capacitor (minimum) to VSS.", 2 VSS (power) "Ground terminal", 3 NC "These pins may have internal circuits used for test purposes. Do not make any external connections at these pins for normal operation.", 4 ~{FAULT} (hiz) "Open-drain output, device status. F\A\U\L\T\ = Low indicates that the input FET Q1 has been turned off due to input overvoltage, input overcurrent, battery overvoltage, or thermal shutdown.", 5 ~{CE} (in) "Chip enable input. Active low. When C\E\ = High, the input FET is off. Internally pulled down.", 6 VBAT (in) "Battery voltage sense input. Connect to pack positive terminal through a resistor.", 7 ILIM (in) "Input overcurrent threshold programming. Connect a resistor to VSS to set the overcurrent threshold.", 8 OUT (power) "Output terminal to the charging system. Connect external 1µF ceramic capacitor (minimum) to VSS.", 9 EP (power) "There is an internal electrical connection between the exposed thermal pad and the VSS pin of the device. The thermal pad must be connected to the same potential as the VSS pin on the printed circuit board. Do not use the (See Datasheet)"

## BQ24314DSGR
designator U?
Charger Front End Protection IC with 30 V Max Vin and 5.85 V OVP, -40 to 85 degC, 8-pin WSON (DSG), Green (RoHS & no Sb/Br); PartNumber: BQ24314DSGR; Manufacturer: Texas Instruments; Lead Acid: N; DatasheetVersion: SLUS763C; PackageVersion: revB, Oct-2010; PackageReference: DSG8-1600X900TP; PackageDescription: 8-Pin Plastic Small Outline No-Lead, 2 x 2 x 0.8 mm Body, 0.5 mm Pitch, Exposed Pad; Supplier 1: Digi-Key; Supplier Part Number 1: 296-22998-2-ND; Supplier 2: Digi-Key; Supplier Part Number 2: 296-22998-1-ND; Supplier 3: Digi-Key; Supplier Part Number 3: 296-22998-6-ND; Supplier 4: Mouser; Supplier Part Number 4: 595-BQ24314DSGR; Eco-Plan: Green (RoHS & no Sb/Br); Li-Ion: N; Li-Polymer: N; NiCd: N; NiMH: N; Over Voltage Protection: N; SubFamily: Charger Front End Protection; Mounting Technology: Surface Mount; Code_JEDEC: MO-229; ComponentLink1Description: Datasheet; ComponentLink1URL: http://www.ti.com/general/docs/lit/getliterature.tsp?genericPartNumber=BQ24314&fileType=pdf
footprint DSG8-1600X900TP (SON, 8-Leads, Body 2x2mm, Pitch 0.5mm, Thermal Pad 1.6x0.9mm, TI Recommended)
pins: 1 IN (power) "Input power, connect to external DC supply. Connect external 1uF ceramic capacitor (minimum) to VSS. For the 12 pin (DSJ-suffix) device, ensure that pins 1 and 2 are connected together on the PCB at the device.", 2 VSS (power) "Ground terminal", 3 NC "These pins may have internal circuits used for test purposes. Do not make any external connections at these pins for normal operation.", 4 ~{FAULT} (hiz) "Open-drain output, device status. F\A\U\L\T\ = Low indicates that the input FET Q1 has been turned off due to input overvoltage, input overcurrent, battery overvoltage, or thermal shutdown.", 5 ~{CE} "Chip enable input. Active low. When C\E\ = High, the input FET is off. Internally pulled down.", 6 VBAT (in) "Battery voltage sense input. Connect to pack positive terminal through a resistor.", 7 ILIM (in) "Input overcurrent threshold programming. Connect a resistor to VSS to set the overcurrent threshold.", 8 OUT (power) "Output terminal to the charging system. Connect external 1uF ceramic capacitor (minimum) to VSS.", 9 EP (power) "There is an internal electrical connection between the exposed thermal pad and the VSS pin of the Thermal device. The thermal pad must be connected to the same potential as the VSS pin on the printed PAD circuit board. Do (See Datasheet)"